# EAGLE library part KINETIS_K82-100 (library everykey)
NXP/Freescale Cortex M4F, 150MHz, with crypto coprocessor, 100 pin package
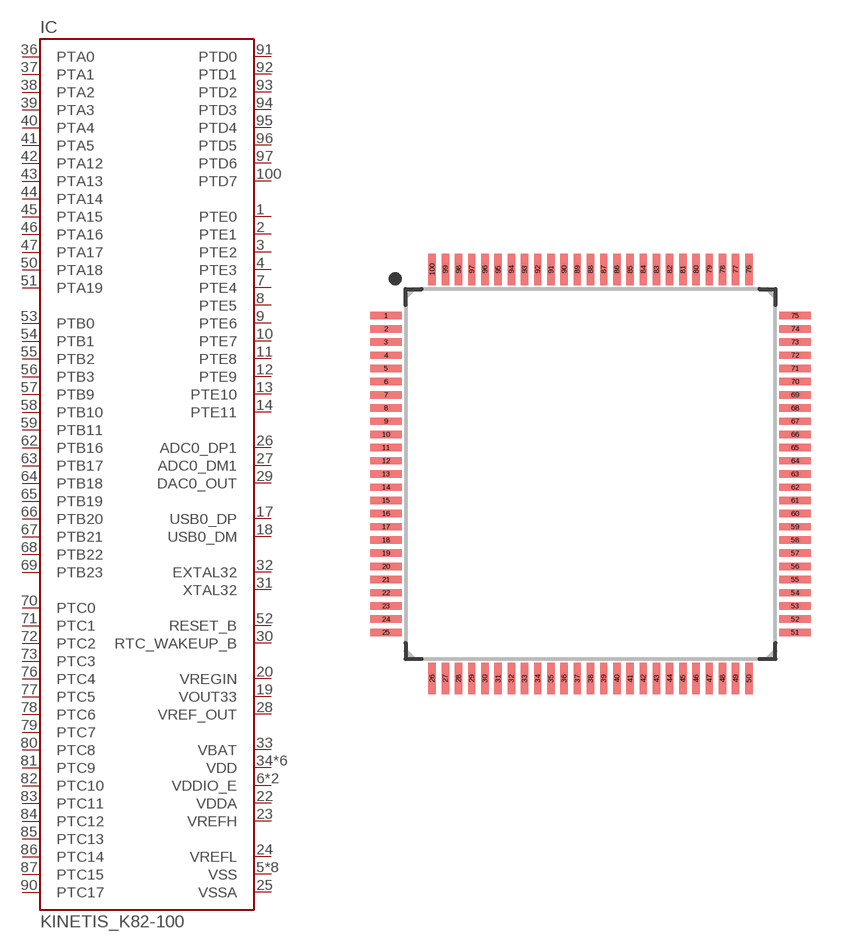
[diagram p89: symbol with the pads of QFP100-0.5; footprint QFP100-0.5]

Designator prefix IC

## KINETIS_K82-100-QFP100  [QFP100-0.5]
1  PTE0
2  PTE1
3  PTE2
4  PTE3
5  VSS  pwr
6  VDDIO_E  pwr
7  PTE4
8  PTE5
9  PTE6
10  PTE7
11  PTE8
12  PTE9
13  PTE10
14  PTE11
15  VDDIO_E  pwr
16  VSS  pwr
17  USB0_DP
18  USB0_DM
19  VOUT33  out
20  VREGIN  in
22  VDDA  pwr
23  VREFH  pwr
24  VREFL  pwr
25  VSSA  pwr
26  ADC0_DP1  in
27  ADC0_DM1  in
28  VREF_OUT  out
29  DAC0_OUT  out
30  RTC_WAKEUP_B  in
31  XTAL32
32  EXTAL32
33  VBAT  pwr
34  VDD  pwr
35  VSS  pwr
36  PTA0
37  PTA1
38  PTA2
39  PTA3
40  PTA4
41  PTA5
42  PTA12
43  PTA13
44  PTA14
45  PTA15
46  PTA16
47  PTA17
48  VDD  pwr
49  VSS  pwr
50  PTA18
51  PTA19
52  RESET_B  in
53  PTB0
54  PTB1
55  PTB2
56  PTB3
57  PTB9
58  PTB10
59  PTB11
60  VSS  pwr
61  VDD  pwr
62  PTB16
63  PTB17
64  PTB18
65  PTB19
66  PTB20
67  PTB21
68  PTB22
69  PTB23
70  PTC0
71  PTC1
72  PTC2
73  PTC3
74  VSS  pwr
75  VDD  pwr
76  PTC4
77  PTC5
78  PTC6
79  PTC7
80  PTC8
81  PTC9
82  PTC10
83  PTC11
84  PTC12
85  PTC13
86  PTC14
87  PTC15
88  VSS  pwr
89  VDD  pwr
90  PTC17
91  PTD0
92  PTD1
93  PTD2
94  PTD3
95  PTD4
96  PTD5
97  PTD6
98  VSS  pwr
99  VDD  pwr
100  PTD7

## Footprint QFP100-0.5 (pad centres in mm)
QFP, 100 pins, 0.5mm pitch
smd 1.2 x 0.28: 1 -7.75,6; 2 -7.75,5.5; 3 -7.75,5; 4 -7.75,4.5; 5 -7.75,4; 6 -7.75,3.5; 7 -7.75,3; 8 -7.75,2.5; 9 -7.75,2; 10 -7.75,1.5; 11 -7.75,1; 12 -7.75,0.5; 13 -7.75,0; 14 -7.75,-0.5; 15 -7.75,-1; 16 -7.75,-1.5; 17 -7.75,-2; 18 -7.75,-2.5; 19 -7.75,-3; 20 -7.75,-3.5; 21 -7.75,-4; 22 -7.75,-4.5; 23 -7.75,-5; 24 -7.75,-5.5; 25 -7.75,-6; 51 7.75,-6; 52 7.75,-5.5; 53 7.75,-5; 54 7.75,-4.5; 55 7.75,-4; 56 7.75,-3.5; 57 7.75,-3; 58 7.75,-2.5; 59 7.75,-2; 60 7.75,-1.5; 61 7.75,-1; 62 7.75,-0.5; 63 7.75,0; 64 7.75,0.5; 65 7.75,1; 66 7.75,1.5; 67 7.75,2; 68 7.75,2.5; 69 7.75,3; 70 7.75,3.5; 71 7.75,4; 72 7.75,4.5; 73 7.75,5; 74 7.75,5.5; 75 7.75,6
smd 0.28 x 1.2: 26 -6,-7.75; 27 -5.5,-7.75; 28 -5,-7.75; 29 -4.5,-7.75; 30 -4,-7.75; 31 -3.5,-7.75; 32 -3,-7.75; 33 -2.5,-7.75; 34 -2,-7.75; 35 -1.5,-7.75; 36 -1,-7.75; 37 -0.5,-7.75; 38 0,-7.75; 39 0.5,-7.75; 40 1,-7.75; 41 1.5,-7.75; 42 2,-7.75; 43 2.5,-7.75; 44 3,-7.75; 45 3.5,-7.75; 46 4,-7.75; 47 4.5,-7.75; 48 5,-7.75; 49 5.5,-7.75; 50 6,-7.75; 76 6,7.75; 77 5.5,7.75; 78 5,7.75; 79 4.5,7.75; 80 4,7.75; 81 3.5,7.75; 82 3,7.75; 83 2.5,7.75; 84 2,7.75; 85 1.5,7.75; 86 1,7.75; 87 0.5,7.75; 88 0,7.75; 89 -0.5,7.75; 90 -1,7.75; 91 -1.5,7.75; 92 -2,7.75; 93 -2.5,7.75; 94 -3,7.75; 95 -3.5,7.75; 96 -4,7.75; 97 -4.5,7.75; 98 -5,7.75; 99 -5.5,7.75; 100 -6,7.75